# EAGLE library part CH340X (library BSBInterface)
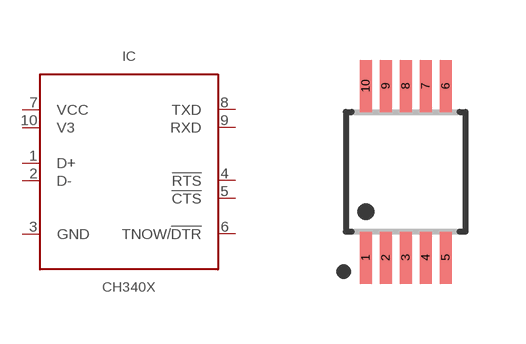
[diagram p9: symbol with the pads of MSOP10; footprint MSOP10]

Designator prefix IC

## CH340X (LCSC_PART: C3035748)  [MSOP10]
1  D+
2  D-
3  GND  pwr
4  !RTS  out
5  !CTS  in
6  TNOW/!DTR
7  VCC  pwr
8  TXD  out
9  RXD  in
10  V3  pwr

## Footprint MSOP10 (pad centres in mm)
10-Lead, 0.118" Wide, Miniature Small Outline Package MSOP
smd 0.3 x 1.3: 1 -1,-2.15; 2 -0.5,-2.15; 3 0,-2.15; 4 0.5,-2.15; 5 1,-2.15; 6 1,2.15; 7 0.5,2.15; 8 0,2.15; 9 -0.5,2.15; 10 -1,2.15